# Altium schematic symbol library Schematics.SchLib: 3 symbols
Pins are listed as number, name and electrical type; pins without a type are passive.

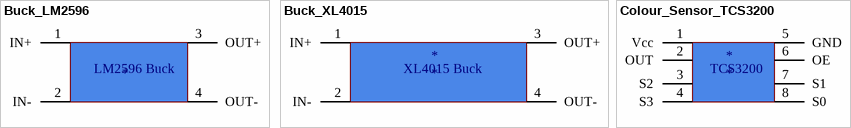
[diagram p0: symbols Buck_LM2596 to Colour_Sensor_TCS3200]

## Buck_LM2596
designator ?
footprint Buck_LM2596
pins: 1 IN+ (power), 2 IN- (power), 3 OUT+ (power), 4 OUT- (power)
text: LM2596 Buck

## Buck_XL4015
designator *
footprint Buck_LM4015
pins: 1 IN+ (power), 2 IN- (power), 3 OUT+ (power), 4 OUT- (power)
text: XL4015 Buck

## Colour_Sensor_TCS3200
designator *
footprint Colour_Sensor_TCS3200
pins: 1 Vcc (power), 2 OUT, 3 S2, 4 S3, 5 GND (power), 6 OE, 7 S1, 8 S0
text: TCS3200